# Altium integrated library AT91SAM9260_BGA.IntLib: 1 symbol
Pins are listed as number, name and electrical type; pins without a type are passive.

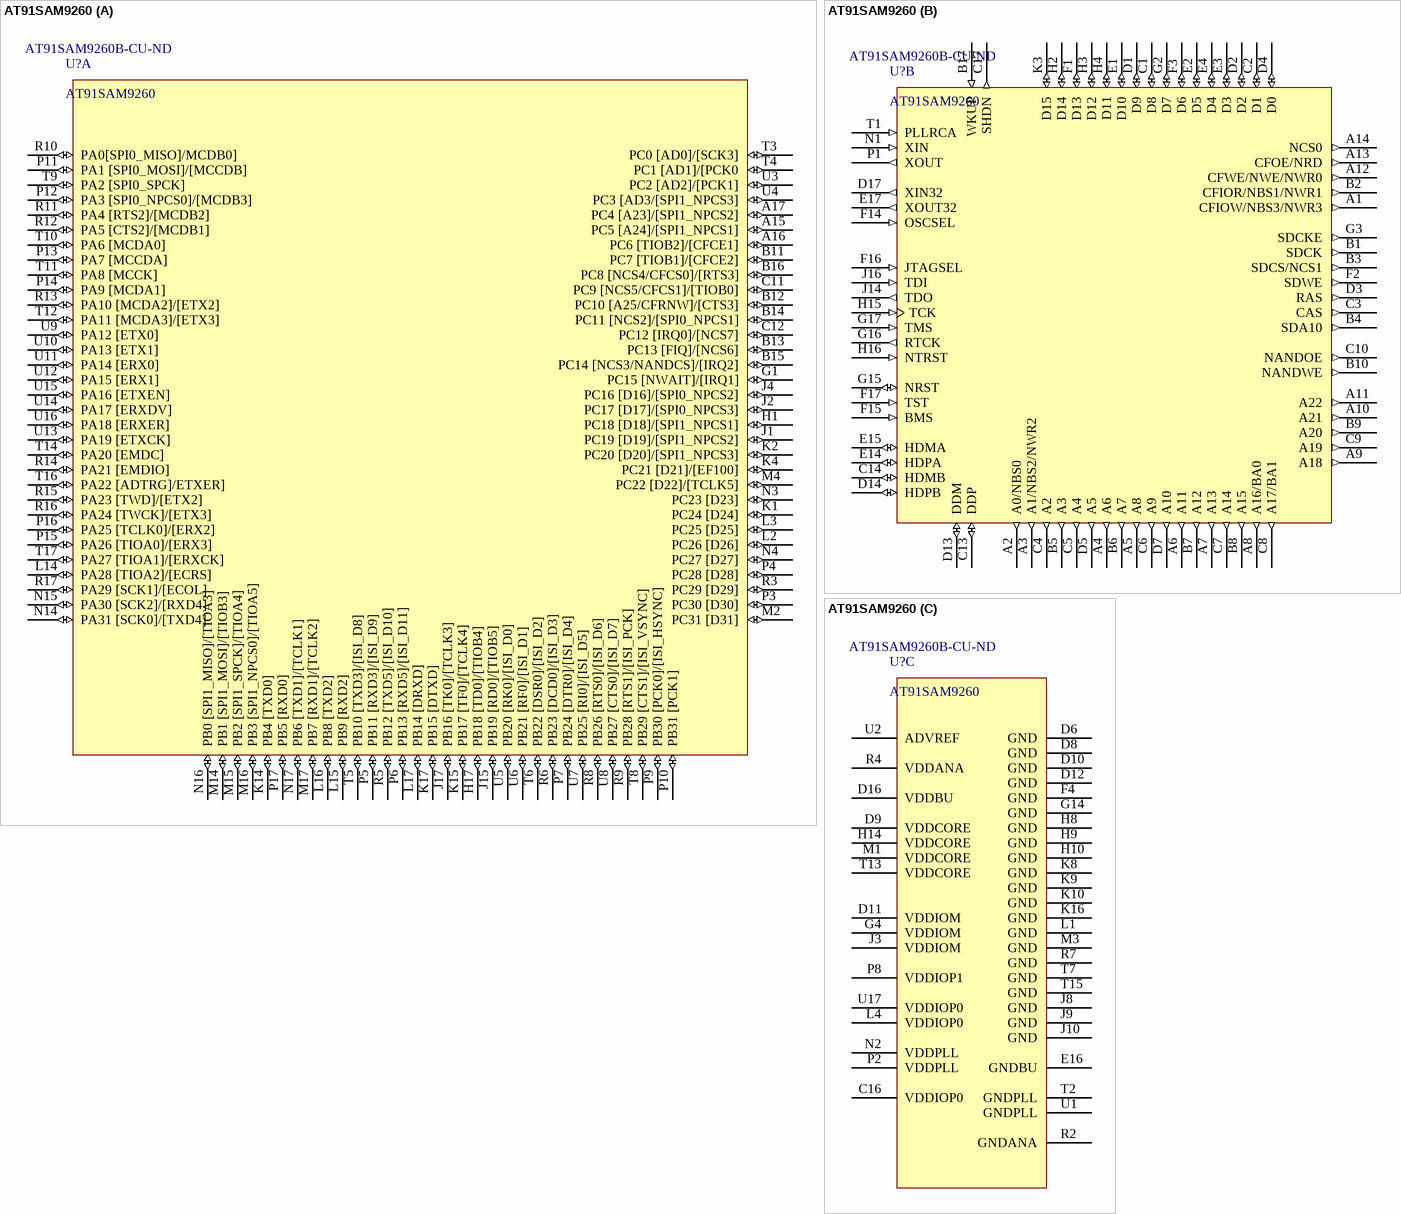
[diagram p0: symbol AT91SAM9260]

## AT91SAM9260
designator U?  Supplier Part Number 1: AT91SAM9260B-CU-ND
ARM926EJ-S 32 bit RISC CPU, 217-Ball BGA; Note: The pin names in [ ] brackets indicate peripheral multiplexing function.; ComponentLink1Description: Manufacturer Link; ComponentLink1URL: http://www.atmel.com; ComponentLink2Description: Datasheet; ComponentLink2URL: http://www.atmel.com/dyn/resources/prod_documents/doc6221.pdf; DatasheetVersion: 6221I-ATARM-17-Jul-09; PackageDescription: 217-Ball Ball Grid Array 0.8 mm Pitch; PackageReference: BGA217; Supplier 1: Digi-Key
footprint BGA217C80P17X17_1500X1500X140 (BGA, 217-Leads, Body 15.0x15.0mm,  Pitch 0.80mm)
part A pins: A15 PC5 [A24]/[SPI1_NPCS1] (io), A16 PC6 [TIOB2]/[CFCE1] (io), A17 PC4 [A23]/[SPI1_NPCS2] (io), B11 PC7 [TIOB1]/[CFCE2] (io), B12 PC10 [A25/CFRNW]/[CTS3] (io), B13 PC13 [FIQ]/[NCS6] (io), B14 PC11 [NCS2]/[SPI0_NPCS1] (io), B15 PC14 [NCS3/NANDCS]/[IRQ2] (io), B16 PC8 [NCS4/CFCS0]/[RTS3] (io), C11 PC9 [NCS5/CFCS1]/[TIOB0] (io), C12 PC12 [IRQ0]/[NCS7] (io), G1 PC15 [NWAIT]/[IRQ1] (io), H1 PC18 [D18]/[SPI1_NPCS1] (io), H17 PB18 [TD0]/[TIOB4] (io), J1 PC19 [D19]/[SPI1_NPCS2] (io), J2 PC17 [D17]/[SPI0_NPCS3] (io), J4 PC16 [D16]/[SPI0_NPCS2] (io), J15 PB19 [RD0]/[TIOB5] (io), J17 PB16 [TK0]/[TCLK3] (io), K1 PC24 [D24] (io), K2 PC20 [D20]/[SPI1_NPCS3] (io), K4 PC21 [D21]/[EF100] (io), K14 PB4 [TXD0] (io), K15 PB17 [TF0]/[TCLK4] (io), K17 PB15 [DTXD] (io), L2 PC26 [D26] (io), L3 PC25 [D25] (io), L14 PA28 [TIOA2]/[ECRS] (io), L15 PB9 [RXD2] (io), L16 PB8 [TXD2] (io), L17 PB14 [DRXD] (io), M2 PC31 [D31] (io), M4 PC22 [D22]/[TCLK5] (io), M14 PB1 [SPI1_MOSI]/[TIOB3] (io), M15 PB2 [SPI1_SPCK]/[TIOA4] (io), M16 PB3 [SPI1_NPCS0]/[TIOA5] (io), M17 PB7 [RXD1]/[TCLK2] (io), N3 PC23 [D23] (io), N4 PC27 [D27] (io), N14 PA31 [SCK0]/[TXD4] (io), N15 PA30 [SCK2]/[RXD4] (io), N16 PB0 [SPI1_MISO]/[TIOA3] (io), N17 PB6 [TXD1]/[TCLK1] (io), P3 PC30 [D30] (io), P4 PC28 [D28] (io), P5 PB11 [RXD3]/[ISI_D9] (io), P6 PB13 [RXD5]/[ISI_D11] (io), P7 PB24 [DTR0]/[ISI_D4] (io), P9 PB30 [PCK0]/[ISI_HSYNC] (io), P10 PB31 [PCK1] (io), P11 PA1 [SPI0_MOSI]/[MCCDB] (io), P12 PA3 [SPI0_NPCS0]/[MCDB3] (io), P13 PA7 [MCCDA] (io), P14 PA9 [MCDA1] (io), P15 PA26 [TIOA0]/[ERX3] (io), P16 PA25 [TCLK0]/[ERX2] (io), P17 PB5 [RXD0] (io), R3 PC29 [D29] (io), R5 PB12 [TXD5]/[ISI_D10] (io), R6 PB23 [DCD0]/[ISI_D3] (io), R8 PB26 [RTS0]/[ISI_D6] (io), R9 PB28 [RTS1]/[ISI_PCK] (io), R10 PA0[SPI0_MISO]/MCDB0] (io), R11 PA4 [RTS2]/[MCDB2] (io), R12 PA5 [CTS2]/[MCDB1] (io), R13 PA10 [MCDA2]/[ETX2] (io), R14 PA21 [EMDIO] (io), R15 PA23 [TWD]/[ETX2] (io), R16 PA24 [TWCK]/[ETX3] (io), R17 PA29 [SCK1]/[ECOL] (io), T3 PC0 [AD0]/[SCK3] (io), T4 PC1 [AD1]/[PCK0 (io), T5 PB10 [TXD3]/[ISI_D8] (io), T6 PB22 [DSR0]/[ISI_D2] (io), T8 PB29 [CTS1]/[ISI_VSYNC] (io), T9 PA2 [SPI0_SPCK] (io), T10 PA6 [MCDA0] (io), T11 PA8 [MCCK] (io), T12 PA11 [MCDA3]/[ETX3] (io), T14 PA20 [EMDC] (io), T16 PA22 [ADTRG]/ETXER] (io), T17 PA27 [TIOA1]/[ERXCK] (io), U3 PC2 [AD2]/[PCK1] (io), U4 PC3 [AD3/[SPI1_NPCS3] (io), U5 PB20 [RK0]/[ISI_D0] (io), U6 PB21 [RF0]/[ISI_D1] (io), U7 PB25 [RI0]/[ISI_D5] (io), U8 PB27 [CTS0]/[ISI_D7] (io), U9 PA12 [ETX0] (io), U10 PA13 [ETX1] (io), U11 PA14 [ERX0] (io), U12 PA15 [ERX1] (io), U13 PA19 [ETXCK] (io), U14 PA17 [ERXDV] (io), U15 PA16 [ETXEN] (io), U16 PA18 [ERXER] (io)
part B pins: A1 CFIOW/NBS3/NWR3 (out), A2 A0/NBS0 (out), A3 A1/NBS2/NWR2 (out), A4 A6 (out), A5 A8 (out), A6 A11 (out), A7 A13 (out), A8 A16/BA0 (out), A9 A18 (out), A10 A21 (out), A11 A22 (out), A12 CFWE/NWE/NWR0 (out), A13 CFOE/NRD (out), A14 NCS0 (out), B1 SDCK (out), B2 CFIOR/NBS1/NWR1 (out), B3 SDCS/NCS1 (out), B4 SDA10 (out), B5 A3 (out), B6 A7 (out), B7 A12 (out), B8 A15 (out), B9 A20 (out), B10 NANDWE (out), B17 WKUP (in), C1 D8 (io), C2 D1 (io), C3 CAS (out), C4 A2 (out), C5 A4 (out), C6 A9 (out), C7 A14 (out), C8 A17/BA1 (out), C9 A19 (out), C10 NANDOE (out), C13 DDP (io), C14 HDMB (io), C17 SHDN (out), D1 D9 (io), D2 (io), D3 RAS (out), D4 D0 (io), D5 A5 (out), D7 A10 (out), D13 DDM (io), D14 HDPB (io), D17 XIN32 (out), E1 D10 (io), E2 D5 (io), E3 D3 (io), E4 D4 (io), E14 HDPA (io), E15 HDMA (io), E17 XOUT32 (out), F1 D13 (io), F2 SDWE (out), F3 D6 (io), F14 OSCSEL (in), F15 BMS (in), F16 JTAGSEL (in), F17 TST (in), G2 D7 (io), G3 SDCKE (out), G15 NRST (io), G16 RTCK (out), G17 TMS (in), H2 D14 (io), H3 D12 (io), H4 D11 (io), H15 TCK (in), H16 NTRST (in), J14 TDO (out), J16 TDI (in), K3 D15 (io), N1 XIN (in), P1 XOUT (out), T1 PLLRCA (in)
part C pins: C16 VDDIOP0 (power), D6 GND (power), D8 GND (power), D9 VDDCORE (power), D10 GND (power), D11 VDDIOM (power), D12 GND (power), D16 VDDBU (power), E16 GNDBU (power), F4 GND (power), G4 VDDIOM (power), G14 GND (power), H8 GND (power), H9 GND (power), H10 GND (power), H14 VDDCORE (power), J3 VDDIOM (power), J8 GND (power), J9 GND (power), J10 GND (power), K8 GND (power), K9 GND (power), K10 GND (power), K16 GND (power), L1 GND (power), L4 VDDIOP0 (power), M1 VDDCORE (power), M3 GND (power), N2 VDDPLL (power), P2 VDDPLL (power), P8 VDDIOP1 (power), R2 GNDANA (power), R4 VDDANA (power), R7 GND (power), T2 GNDPLL (power), T7 GND (power), T13 VDDCORE (power), T15 GND (power), U1 GNDPLL (power), U2 ADVREF (power), U17 VDDIOP0 (power)